# Altium integrated library 74HC595N.IntLib: 1 symbol
Pins are listed as number, name and electrical type; pins without a type are passive.

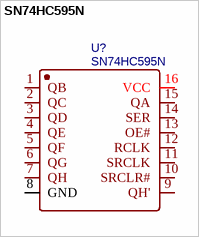
[diagram p0: symbol SN74HC595N]

## SN74HC595N
designator U?
BOM_Manufacturer: TI; BOM_Supplier: LCSC; BOM_Manufacturer Part: SN74HC595N; image: //image.lceda.cn/szlcsc/C78711.jpg; BOM_Supplier Part: C78711; spicePre: U; spiceSymbolName: SN74HC595N
footprint DIP-16_L19.8-W6.5-P2.54-LS7.6-BL
pins: 1 QB, 2 QC, 3 QD, 4 QE, 5 QF, 6 QG, 7 QH, 8 GND, 9 QH', 10 SRCLR#, 11 SRCLK, 12 RCLK, 13 OE#, 14 SER, 15 QA, 16 VCC